# Altium schematic symbol library SCH - PASSIVES - WE-CBF_742792040.SCHLIB: 1 symbol
Pins are listed as number, name and electrical type; pins without a type are passive.

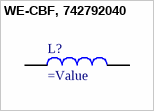
[diagram p0: symbol WE-CBF, 742792040]

## WE-CBF, 742792040
designator L?
WE-CBF SMD EMI Suppression Ferrite Bead, 0805, 600Ω
pins: 1, 2